# Altium footprint library Connectors-USB - DVI - HDMI.PcbLib: 45 footprints (part 3 of 3)
Each footprint in its own frame and in the unit in brackets; x right, y up, seen from the top. Pads: shape width x height; smd on the part's side, far side on the other; paste and mask are expansions set on the pad; w line width, h text height; cw(c..) or ccw(c..) is an arc to the next point about the centre after c.
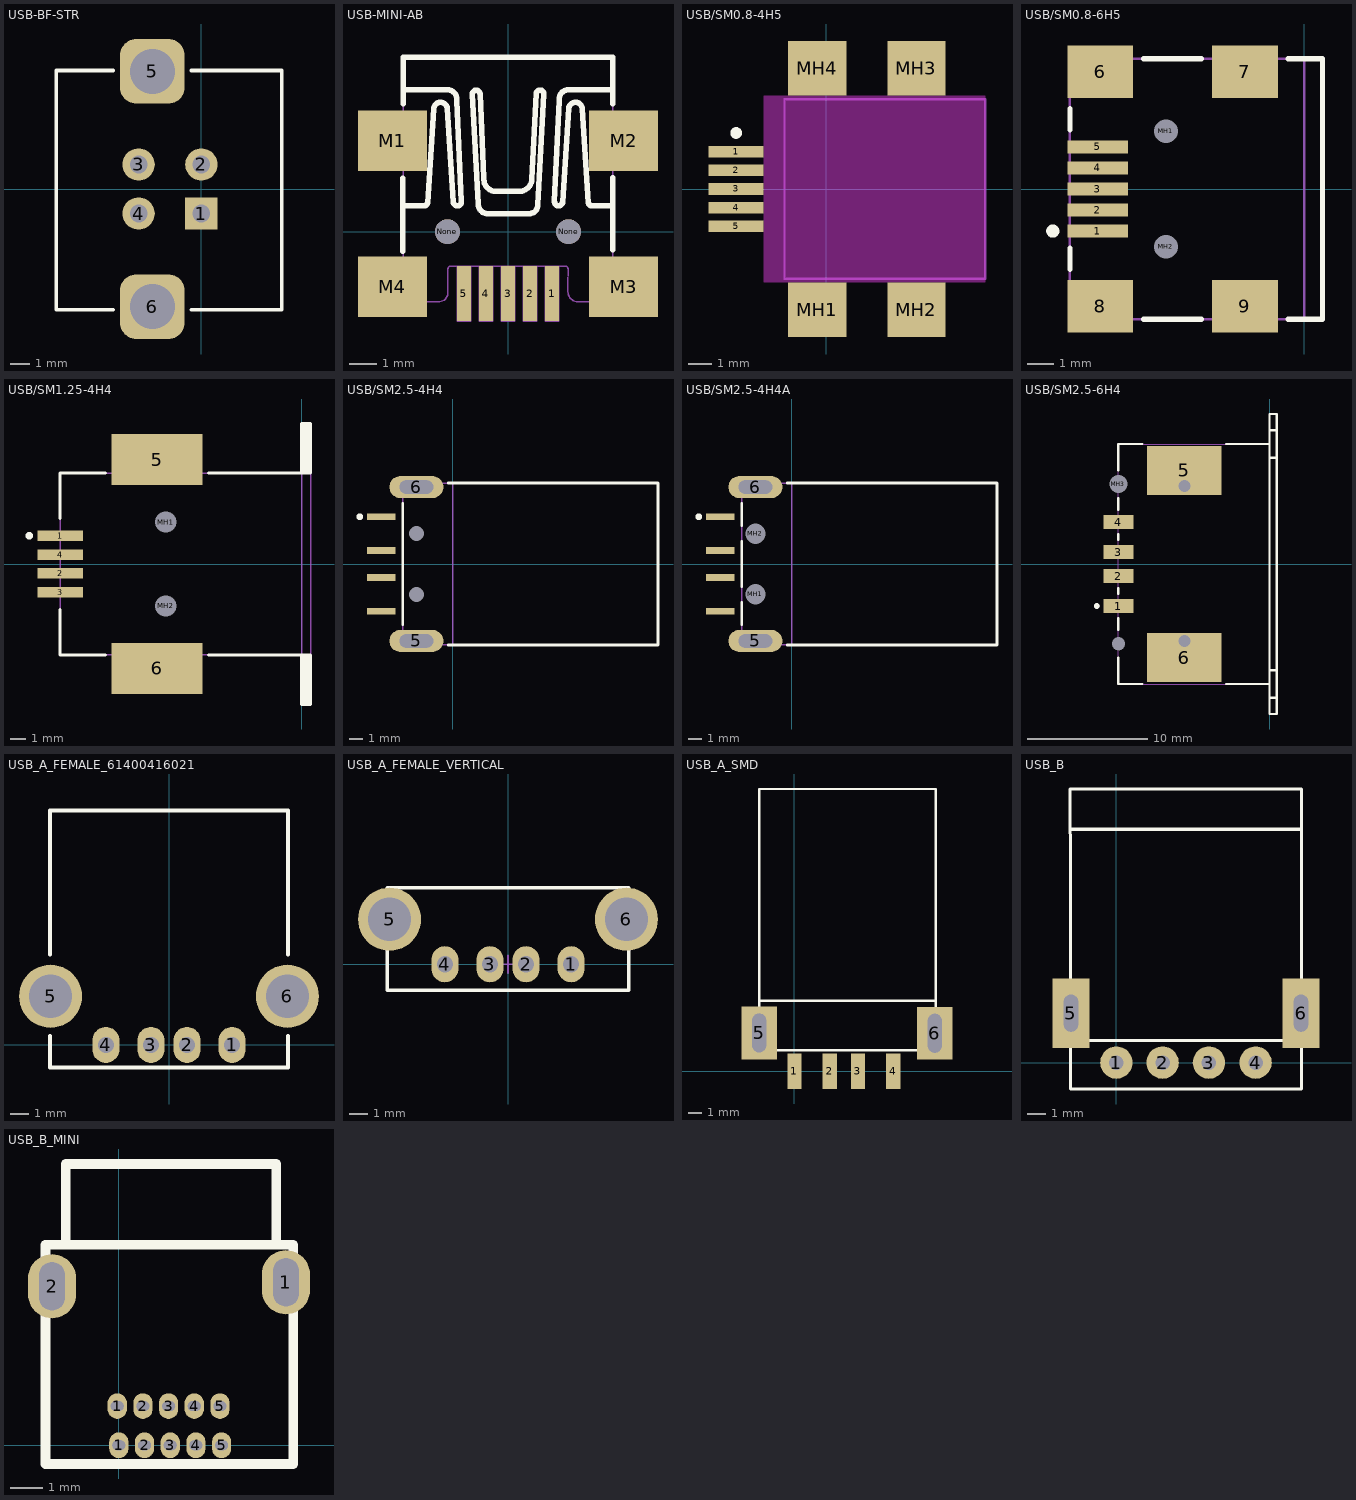
[diagram p2: the footprints below, top view; thin cyan lines are the x and y axes]

## USB-BF-STR [mm] "USB-B type Female Straight"
pads (6):
  rect 1.65x1.65 hole 0.9: 1(0,-1.25)
  round 1.65 hole 0.9: 2(0,1.25) 3(-3.2,1.25) 4(-3.2,-1.25)
  rrect50% 3.3x3.3 hole 2.3: 5(-2.5,6) 6(-2.5,-6)
Top Overlay:
  lines w0.2: -4.5,-6.159 -7.4,-6.159 -7.4,6.033 -4.5,6.033 ; -0.5,-6.159 4.1,-6.159 4.1,6.033 -0.5,6.033
3D body "12039.stp": height 15.32, standoff -4.32, extent -7.378,-7.585 4.078,7.565

## USB-MINI-AB [mm] "CONN RCPT USB2.0 MINI B SMD R/A"
height 3.95
pads (11):
  rect 0.5x2 smd: 1(1.6,-2.25) 2(0.8,-2.25) 3(0,-2.25) 4(-0.8,-2.25) 5(-1.6,-2.25)
  rect 2.5x2.2 smd: M1(-4.2,3.3) M2(4.2,3.3) M3(4.2,-2) M4(-4.2,-2)
  round 0.9 hole 0.9 unplated: None(-2.2,0) None(2.2,0)
Top Overlay:
  lines w0.2: -3.825,-0.71 -3.825,1.94 ; -3.8,4.64 -3.8,6.344 3.799,6.344 3.799,4.641 ; -3.75,0.94 -3.049,0.94 ccw(c-3.043,1.06) -2.923,1.051 -2.699,4.458 ; -3.75,5.159 -2.208,5.159 cw(c-2.208,4.809) -1.858,4.809 -1.858,4.767 -1.69,1.094 ; -2.699,4.46 cw(c-2.453,4.456) -2.208,4.473 ; -2.208,4.472 -1.984,1.08 ccw(c-1.837,1.087) -1.69,1.095 ; -1.297,5.005 -1.087,1.01 ccw(c-0.722,1.01) -0.722,0.645 0.75,0.645 ccw(c0.75,0.982) 1.086,0.982 1.296,5.005 ccw(c1.163,5.012) 1.03,5.019 0.862,1.907 cw(c0.427,1.907) 0.427,1.472 -0.456,1.472 cw(c-0.456,1.893) -0.877,1.893 -0.877,1.963 -1.017,5.005 ; -1.297,5.006 cw(c-1.157,4.999) -1.017,5.006 ; 1.689,1.094 1.857,4.767 1.857,4.809 cw(c2.208,4.809) 2.208,5.159 3.75,5.159 ; 1.689,1.095 ccw(c1.836,1.087) 1.983,1.079 2.208,4.472 cw(c2.453,4.456) 2.698,4.46 ; 2.698,4.458 2.923,1.052 ccw(c3.043,1.06) 3.049,0.94 3.75,0.94 ; 3.8,-0.66 3.8,1.965
Top HCB:
  circle w0.05: c4.745,-1.584 r0.154
  lines w0.05: -4.9,-2.397 ccw(c-4.746,-2.397) -4.746,-2.551 -3.806,-2.551 ; -3.862,-1.43 -4.732,-1.43 ccw(c-4.732,-1.598) -4.9,-1.598 ccw(c-4.746,-1.598) -4.746,-1.752 -4.577,-1.752 cw(c-4.577,-1.976) -4.353,-1.976 -4.353,-2.004 cw(c-4.577,-2.004) -4.577,-2.229 -4.732,-2.229 ccw(c-4.732,-2.397) -4.9,-2.397 ; -3.862,3.856 -4.732,3.856 ccw(c-4.732,3.687) -4.9,3.687 ccw(c-4.746,3.687) -4.746,3.533 -4.577,3.533 cw(c-4.578,3.309) -4.353,3.309 -4.353,3.281 cw(c-4.577,3.281) -4.577,3.057 -4.732,3.056 ccw(c-4.732,2.888) -4.9,2.888 ; -3.75,0.94 -3.049,0.94 ccw(c-3.043,1.06) -2.923,1.051 -2.699,4.458 ; -3.75,5.159 -2.208,5.159 cw(c-2.208,4.809) -1.858,4.809 -1.858,4.767 -1.69,1.094 ; -2.699,4.46 cw(c-2.453,4.456) -2.208,4.473 ; -2.208,4.472 -1.984,1.08 ccw(c-1.837,1.087) -1.69,1.095 ; -1.297,5.005 -1.087,1.01 ccw(c-0.722,1.01) -0.722,0.645 0.75,0.645 ccw(c0.75,0.982) 1.086,0.982 1.296,5.005 ccw(c1.163,5.012) 1.03,5.019 0.862,1.907 cw(c0.427,1.907) 0.427,1.472 -0.456,1.472 cw(c-0.456,1.893) -0.877,1.893 -0.877,1.963 -1.017,5.005 ; -1.297,5.006 cw(c-1.157,4.999) -1.017,5.006 ; 0,0.645 0.014,0.645 ; 1.689,1.094 1.857,4.767 1.857,4.809 cw(c2.208,4.809) 2.208,5.159 3.75,5.159 ; 1.689,1.095 ccw(c1.836,1.087) 1.983,1.079 2.208,4.472 cw(c2.453,4.456) 2.698,4.46 ; 2.18,-1.654 2.18,-2.187 ccw(c2.544,-2.187) 2.544,-2.551 3.806,-2.551 3.806,6.351 -3.806,6.351 -3.806,2.734 ; 2.18,-1.612 2.18,-1.348 ccw(c2.077,-1.348) 2.15,-1.275 ccw(c2.09,-1.335) 2.09,-1.25 1.85,-1.25 ; 2.698,4.458 2.923,1.052 ccw(c3.043,1.06) 3.049,0.94 3.75,0.94 ; 3.792,-2.551 4.731,-2.551 ccw(c4.731,-2.383) 4.899,-2.383 ccw(c4.745,-2.383) 4.745,-2.229 4.577,-2.229 cw(c4.577,-2.004) 4.353,-2.004 4.353,-1.976 cw(c4.577,-1.976) 4.577,-1.752 4.731,-1.752 ccw(c4.731,-1.584) 4.899,-1.584 ; 3.806,-1.43 4.745,-1.43 ; 3.806,3.855 4.745,3.855 ; 3.862,2.734 4.731,2.734 ccw(c4.731,2.902) 4.899,2.902 ccw(c4.745,2.902) 4.745,3.056 4.577,3.056 cw(c4.577,3.281) 4.353,3.281 4.353,3.309 cw(c4.577,3.309) 4.577,3.533 4.731,3.533 ccw(c4.731,3.701) 4.899,3.701 ; 4.745,-1.43 cw(c4.745,-1.583) 4.899,-1.583 ; 4.746,3.856 cw(c4.746,3.702) 4.899,3.702 ; -4.9,-2.397 -4.9,-2.397 ; -4.9,2.888 ccw(c-4.746,2.888) -4.746,2.734 -3.806,2.734 ; -4.9,2.888 -4.9,2.888 ; -3.806,-2.551 -2.531,-2.551 ccw(c-2.531,-2.201) -2.18,-2.201 -2.18,-1.612 -2.18,-1.348 cw(c-2.077,-1.348) -2.15,-1.275 cw(c-2.09,-1.335) -2.09,-1.25 -1.85,-1.25 ; -3.806,-2.551 -3.806,2.734 ; -1.85,-1.25 -1.35,-1.25 ; -1.85,-1.25 -1.85,-3.25 -1.35,-3.25 -1.35,-1.25 ; -1.35,-1.25 -1.05,-1.25 ; -1.05,-1.25 -0.55,-1.25 ; -1.05,-1.25 -1.05,-3.25 -0.55,-3.25 -0.55,-1.25 ; -0.55,-1.25 1.35,-1.25 ; 1.35,-1.25 1.35,-3.25 1.85,-3.25 1.85,-1.25 ; 1.35,-1.25 1.85,-1.25 ; 4.899,-1.584 4.899,-1.584 ; 4.899,3.701 4.899,3.701 ; -0.25,-3.25 0.25,-3.25 0.25,-1.25 -0.25,-1.25 -0.25,-3.25 ; 0.55,-3.25 1.05,-3.25 1.05,-1.25 0.55,-1.25 0.55,-3.25
3D body "66038.stp": height 4.1, standoff 0, extent -4.95,-3.01 4.95,6.39

## USB/SM0.8-4H5 [mm] "Connector; USB Mini-B, Sinking Type, SM; 5 Position; Right Angle"
height 0.65
pads (9):
  rect 2.35x0.5 smd: 1(-3.862,1.6) 2(-3.862,0.8) 3(-3.862,0) 4(-3.862,-0.8) 5(-3.862,-1.6)
  rect 2.5x2.35 smd: MH1(-0.387,-5.175) MH2(3.863,-5.175) MH3(3.863,5.175) MH4(-0.387,5.175)
Top Overlay:
  circle w0.25: c-3.862,2.4 r0.125
Keep-Out Layer:
  rectangle: -2.687,-4 6.813,4
3D:
  lines w0.1: -1.788,-3.85 6.813,-3.85 6.813,3.85 -1.788,3.85 -1.788,-3.85
3D body: height 0.65, standoff -3.25, extent -1.798,-3.838 6.801,3.861

## USB/SM0.8-6H5 [mm] "Connector; USB2.0, Type B, SM; 5 Position; Right Angle"
height 3.9
pads (11):
  rect 2.3x0.5 smd: 1(-7.85,-1.6) 2(-7.85,-0.8) 3(-7.85,0) 4(-7.85,0.8) 5(-7.85,1.6)
  rect 2.5x2 smd: 6(-7.75,4.45) 7(-2.25,4.45) 8(-7.75,-4.45) 9(-2.25,-4.45)
  round 0.6 hole 0.9 unplated: MH1(-5.25,2.2) MH2(-5.25,-2.2)
Top Overlay:
  circle w0.25: c-9.55,-1.6 r0.125
  lines w0.2: -8.9,-3.05 -8.9,-2.25 ; -8.9,2.25 -8.9,3.05 ; -6.1,-4.95 -3.9,-4.95 ; -6.1,4.95 -3.9,4.95 ; -0.6,-4.95 0.7,-4.95 0.7,4.95 -0.6,4.95
Top HCB:
  lines w0.1: 0,-4.95 0,4.95
  text "PCB Edge" at 0.432,-4.036 h0.25
3D:
  lines w0.1: -8.9,-4.95 0.7,-4.95 0.7,4.95 -8.9,4.95 -8.9,-4.95
3D body: height 3.9, standoff 0, extent -8.9,-4.95 0.7,4.95

## USB/SM1.25-4H4 [mm] "Connector; USB1.1, Type B, SM; 4 Position; Right Angle"
height 11
pads (8):
  rect 3x0.7 smd: 1(-16,1.875) 2(-16,-0.625) 3(-16,-1.875) 4(-16,0.625)
  rect 6.04x3.4 smd: 5(-9.58,6.92) 6(-9.58,-6.92)
  round 1.1 hole 1.4 unplated: MH1(-9,2.775) MH2(-9,-2.775)
Top Overlay:
  circle w0.25: c-18.05,1.875 r0.125
  rectangle: 0,6.02 0.6,9.32
  rectangle: 0,-9.32 0.6,-6.02
  lines w0.2: -16,-3 -16,-6.02 -13,-6.02 ; -16,3 -16,6.02 -13,6.02 ; -6.16,-6.02 0,-6.02 ; -6.16,6.02 0,6.02 ; 0,-6.02 0,-9.32 0.6,-9.32 0.6,-6.02 0,-6.02 ; 0,6.02 0,9.32 0.6,9.32 0.6,6.02 0,6.02
Top HCB:
  lines w0.1: 0,-6.02 0,6.02
  text "PCB Edge" at -0.219,-5.75 h0.25
3D:
  lines w0.1: 0,-6.02 0,-9.32 0.6,-9.32 0.6,9.32 0,9.32 0,6.02 ; 0.6,-6.02 -16,-6.02 -16,6.02 0.6,6.02
3D body: height 11, standoff 0, extent -15.999,-6.019 0.599,6.019
3D body: height 11, standoff 0, extent 0.001,-9.319 0.599,-6.021
3D body: height 11, standoff 0, extent 0.001,6.021 0.599,9.319

## USB/SM2.5-4H4 [mm] "Connector; USB1.1, Type A, SM; 4 Position; Right Angle"
height 4.5
pads (8):
  rect 2.1x0.5 smd: 1(-5.3,3.5) 2(-5.3,1) 3(-5.3,-1) 4(-5.3,-3.5)
  oval 4x1.65 hole 1 slot 2.5 at 0 deg: 5(-2.7,-5.7) 6(-2.7,5.7)
  round 0.8 hole 1.1 unplated: MH1(-2.7,-2.25) MH2(-2.7,2.25)
Top Overlay:
  circle w0.25: c-6.9,3.5 r0.125
  lines w0.2: -3.7,-4.475 -3.7,4.475 ; -0.33,-6 15.2,-6 15.2,6 -0.33,6
Top HCB:
  lines w0.1: 0,-6 0,6
  text "PCB Edge" at 0.473,-5.173 h0.25
3D:
  lines w0.1: -3.7,-6 -3.7,6 15.2,6 15.2,-6 -3.7,-6
3D body: height 4.5, standoff 0, extent -3.7,-6 15.2,6

## USB/SM2.5-4H4A [mm] "Connector; USB1.1, Type A, SM; 4 Position; Right Angle"
height 4.5
pads (8):
  rect 2.1x0.5 smd: 1(-5.3,3.5) 2(-5.3,1) 3(-5.3,-1) 4(-5.3,-3.5)
  oval 4x1.65 hole 1 slot 2.5 at 0 deg: 5(-2.7,-5.7) 6(-2.7,5.7)
  round 1.2 hole 1.5 unplated: MH1(-2.7,-2.25) MH2(-2.7,2.25)
Top Overlay:
  circle w0.25: c-6.9,3.5 r0.125
  lines w0.2: -3.7,-4.475 -3.7,-2.83 ; -3.7,-1.68 -3.7,1.68 ; -3.7,2.83 -3.7,4.475 ; -0.33,-6 15.2,-6 15.2,6 -0.33,6
Top HCB:
  lines w0.1: 0,-6 0,6
  text "PCB Edge" at 0.473,-5.173 h0.25
3D:
  lines w0.1: -3.7,-6 -3.7,6 15.2,6 15.2,-6 -3.7,-6
3D body: height 4.5, standoff 0, extent -3.7,-6 15.2,6

## USB/SM2.5-6H4 [mm] "Connector; USB1.1, Type A, SM; 4 Position; Right Angle"
height 7.8
pads (10):
  rect 2.5x1.2 smd: 1(-12.6,-3.5) 2(-12.6,-1) 3(-12.6,1) 4(-12.6,3.5)
  rect 6.2x4.1 smd: 5(-7.1,7.8) 6(-7.1,-7.8)
  round 0.7 hole 1 unplated: MH1(-7.1,6.496) MH2(-7.1,-6.404)
  round 1.2 hole 1.5 unplated: MH3(-12.6,6.65)
  round 0.8 hole 1.1 unplated: MH4(-12.6,-6.65)
Top Overlay:
  circle w0.25: c-14.4,-3.5 r0.125
  lines w0.2: -12.6,-7.8 -12.6,-10 -10.6,-10 ; -12.6,-5.5 -12.6,-4.5 ; -12.6,-2.5 -12.6,-2 ; -12.6,2 -12.6,2.5 ; -12.6,4.5 -12.6,5.5 ; -12.6,7.8 -12.6,10 -10.6,10 ; -3.6,-10 0,-10 ; -3.6,10 0,10 ; 0,-11.15 0.576,-11.15 ; 0,-8.85 0.6,-8.85 ; 0,8.85 0.588,8.85 ; 0,11.15 0.588,11.15 ; 0,-12.5 0,12.5 0.6,12.5 0.6,-12.5 0,-12.5
3D:
  lines w0.1: -12.6,-10 0,-10 0,-12.5 0.6,-12.5 0.6,12.5 0,12.5 0,10 -12.6,10 -12.6,-10
3D body: height 7.8, standoff 0, extent -12.599,-12.499 0.599,12.499

## USB_A_FEMALE_61400416021 [mm] "Wurth, USB - A USB 2.0 Receptacle Connector 4 Position Through Hole, Right Angle"
height 6.8
pads (6):
  oval 1.5x2 hole 0.9: 1(3.5,0) 2(1,0) 3(-1,0) 4(-3.5,0)
  round 3.5 hole 2.4: 5(-6.57,2.7) 6(6.57,2.7)
Top Overlay:
  lines w0.2: -6.6,0.5 -6.6,-1.25 6.6,-1.25 6.6,0.5 ; -6.6,5 -6.6,13 6.6,13 6.6,5
3D body "61400416021.stp": height 7.76, standoff -3.64, extent -7.901,-1.12 7.901,12.98

## USB_A_FEMALE_VERTICAL [mm] "Type A Female USB Connector, Vertical PCB"
pads (6):
  oval 1.5x2 hole 0.9: 1(3.5,0) 2(1,0) 3(-1,0) 4(-3.5,0)
  round 3.5 hole 2.4: 5(-6.57,2.5) 6(6.57,2.5)
Top Overlay:
  lines w0.2: -6.7,-1.45 6.7,-1.45 6.7,4.25 -6.7,4.25 -6.7,-1.45
Mechanical 15:
  lines w0.1: -0.5,0 0.5,0 ; 0,-0.5 0,0.5
3D body "43749.stp": height 15, standoff -3.8, extent -7.849,-2.06 7.85,4.78

## USB_A_SMD [mil] "For USB SMD"
height 150
pads (6):
  rect 40x100 smd: 1(0,0) 2(100,0) 3(180,0) 4(280,0)
  rect 100x150 hole 40 slot 110 at 90 deg: 5(-100,109) 6(398,108)
Top Overlay:
  lines w7: -100,200 400,200 ; -100,60 -100,800 400,800 400,60 -100,60
3D body "SW3dPS-USB Series A Plug.STEP": height 73.83, standoff -103.33, extent -93.44,62.17 379,783.83

## USB_B [mil] "USB A connector, 4pin, For USB sing"
height 100
pads (6):
  round 70 hole 31: 1(0,0) 2(100,0) 3(200,0) 4(301,0)
  rect 80x150 hole 31 slot 80 at 90 deg: 5(-98,107) 6(399,107)
Top Overlay:
  lines w7: -99,504 400,504 ; -98,48 401,48 ; -100,591 -99,397 -99,-57 400,-57 400,591 -100,591
3D body "usb_a-usbsa.stp": height 277.51, standoff -149.84, extent -162.02,-58 460.02,512.87

## USB_B_MINI [mm]
pads (12):
  oval 0.6x0.8 hole 0.3 slot 0.4 at 0 deg: 1(-0.051,1.219) 1(0,0) 2(0.749,1.219) 2(0.8,0) 3(1.549,1.219) 3(1.6,0) 4(2.349,1.219) 4(2.4,0) 5(3.149,1.219) 5(3.2,0)
  oval 1.5x2 hole 0.8 slot 1.5 at 90 deg: 1(5.207,5.08) 2(-2.083,4.953)
Top Overlay:
  lines w0.3: -1.651,6.299 -1.651,8.763 4.902,8.763 4.902,6.35 ; -2.286,-0.584 5.436,-0.584 5.436,6.248 -2.286,6.248 -2.286,-0.584
3D body "usb_b_mini_dip.stp": height 3.92, standoff -1.68, extent -2.266,-0.561 5.436,8.791